# Altium footprint library cherry_mx.PcbLib: 1 footprints
Each footprint in its own frame and in the unit in brackets; x right, y up, seen from the top. Pads: shape width x height; smd on the part's side, far side on the other; paste and mask are expansions set on the pad; w line width, h text height; cw(c..) or ccw(c..) is an arc to the next point about the centre after c.
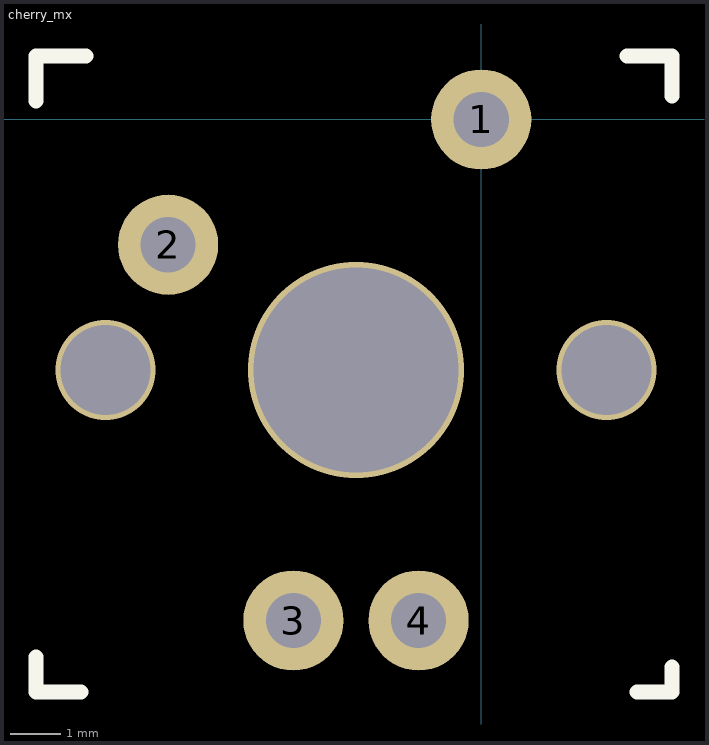
[diagram p0: the footprint, top view; thin cyan lines are the x and y axes]

## cherry_mx [mm]
pads (4):
  round 2 hole 1.1: 1(0,0) 2(-6.25,-2.5) 3(-3.75,-10) 4(-1.25,-10)
via 2.5,-5 diameter 2 hole 1.8
via -7.5,-5 diameter 2 hole 1.8
via -2.5,-5 diameter 4.318 hole 4.1
Top Overlay:
  lines w0.3: -8.89,-10.73 -8.89,-11.43 -7.99,-11.43 ; -8.89,0.37 -8.89,1.27 -7.89,1.27 ; 2.91,1.27 3.81,1.27 3.81,0.47 ; 3.11,-11.43 3.81,-11.43 3.81,-10.93